# Altium footprint library 530480810.PcbLib: 1 footprints
Each footprint in its own frame and in the unit in brackets; x right, y up, seen from the top. Pads: shape width x height; smd on the part's side, far side on the other; paste and mask are expansions set on the pad; w line width, h text height; cw(c..) or ccw(c..) is an arc to the next point about the centre after c.
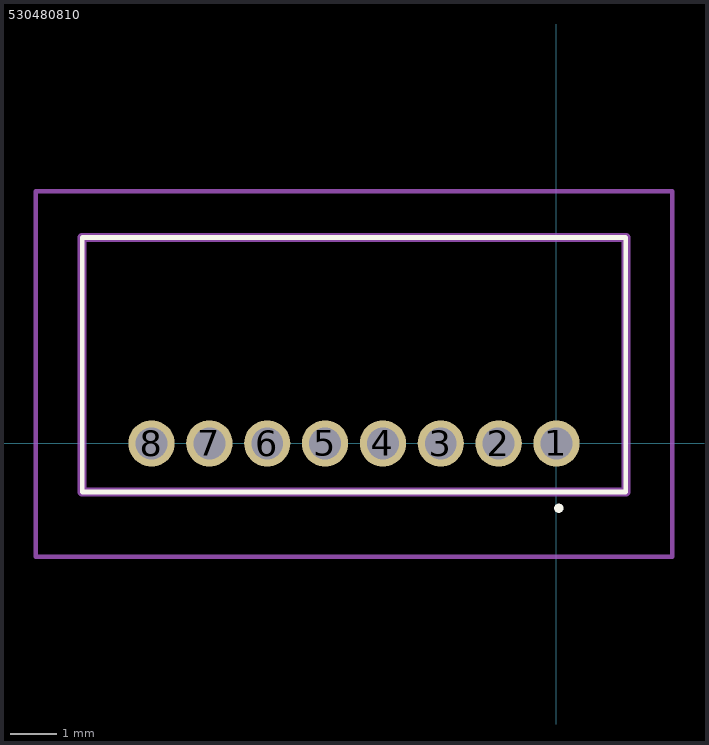
[diagram p0: the footprint, top view; thin cyan lines are the x and y axes]

## 530480810 [mm]
pads (8):
  round 1 hole 0.69: 1(0,0) 2(-1.25,0) 3(-2.5,0) 4(-3.75,0) 5(-5,0) 6(-6.25,0) 7(-7.5,0) 8(-8.75,0)
Top Overlay:
  lines w0.1: 0,-1.4 0,-1.4 ; 0,-1.4 ccw(c0.05,-1.4) 0.1,-1.4 ; 0,-1.4 cw(c0.05,-1.4) 0.1,-1.4 ; 0.1,-1.4 0.1,-1.4 ; -10.25,-1.05 1.5,-1.05 1.5,4.45 -10.25,4.45 -10.25,-1.05
Mechanical 15:
  lines w0.2: -10.25,-1.05 1.5,-1.05 1.5,4.45 -10.25,4.45 -10.25,-1.05
Mechanical 20:
  lines w0.1: -11.25,-2.45 2.5,-2.45 2.5,5.45 -11.25,5.45 -11.25,-2.45